# Altium footprint library SnapEDApcb.PcbLib: 1 footprints
Each footprint in its own frame and in the unit in brackets; x right, y up, seen from the top. Pads: shape width x height; smd on the part's side, far side on the other; paste and mask are expansions set on the pad; w line width, h text height; cw(c..) or ccw(c..) is an arc to the next point about the centre after c.
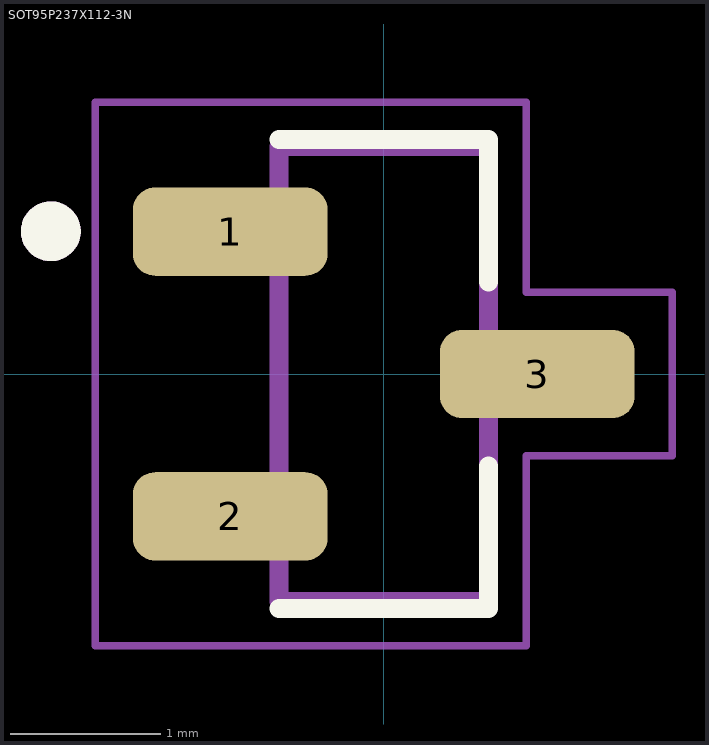
[diagram p0: the footprint, top view; thin cyan lines are the x and y axes]

## SOT95P237X112-3N [mm]
pads (3):
  rrect50% 1.3x0.59 smd: 1(-1.025,0.95) 2(-1.025,-0.95) 3(1.025,0)
Top Overlay:
  circle w0.2: c-2.222,0.953 r0.1
  lines w0.127: -0.7,-1.565 0.7,-1.565 0.7,-0.615 ; -0.7,1.565 0.7,1.565 0.7,0.615
Mechanical 13:
  circle w0.2: c-2.222,0.953 r0.1
  lines w0.127: -0.7,-1.52 -0.7,1.52 0.7,1.52 0.7,-1.52 -0.7,-1.52
Mechanical 15:
  lines w0.05: -1.925,-1.815 0.95,-1.815 0.95,-0.545 1.925,-0.545 1.925,0.545 0.95,0.545 0.95,1.815 -1.925,1.815 -1.925,-1.815
3D body "MMBZ5237B.STEP": height 1.11, standoff 0, extent -1.2,-1.45 1.2,1.45